# EAGLE library part TPS2113PW (library TPS2113PW)
AUTOSWITCHING POWER MUX
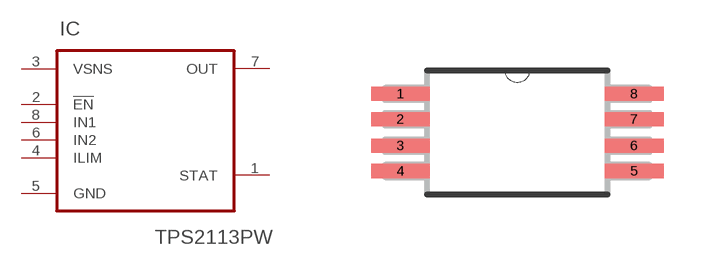
[diagram p0: symbol with the pads of SOP65P640X120-8N; footprint SOP65P640X120-8N]

Designator prefix IC

## TPS2113PW (DESCRIPTION: Power Muxes and Current Limited Switches Dual In/Single Out Autoswitch Power MUX; DIGI-KEY_PART_NUMBER: 296-14205-5-ND; DIGI-KEY_PURCHASE_URL: https://www.digikey.com/product-detail/en/texas-instruments/TPS2113PW/296-14205-5-ND/526040?utm_source=snapeda&utm_medium=aggregator&utm_campaign=symbol; MF: Texas Instruments; MP: TPS2113PW; PACKAGE: TSSOP-8 Texas Instruments)  [SOP65P640X120-8N]
1  STAT  out
2  !EN  in
3  VSNS  pwr
4  ILIM  in
5  GND  pas
6  IN2  in
7  OUT  out
8  IN1  in

## Footprint SOP65P640X120-8N (pad centres in mm)
smd 1.473 x 0.356: 1 -2.921,0.965; 2 -2.921,0.33; 3 -2.921,-0.33; 4 -2.921,-0.965; 5 2.921,-0.965; 6 2.921,-0.33; 7 2.921,0.33; 8 2.921,0.965